# EAGLE library part AP2112M-3.3TRG1_AP2112M-3.3TRG1 (library ROSPIN School Payload)
LDO Voltage Regulators LDO CMOS HiCurr Source: Datasheet <https://www.diodes.com/assets/Datasheets/AP2112.pdf>
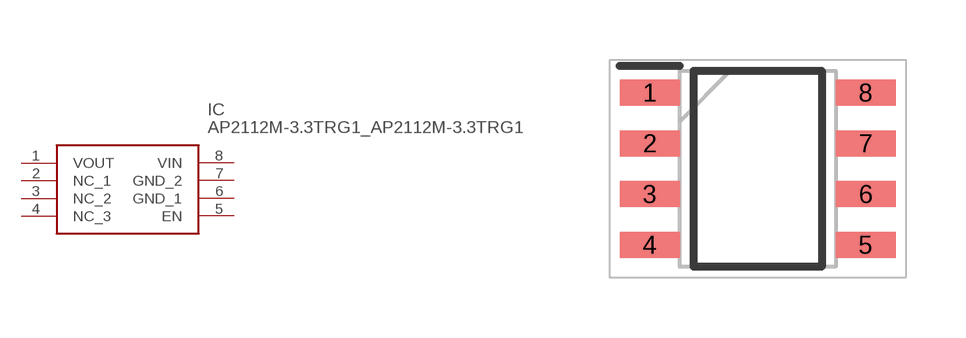
[diagram p1: symbol with the pads of AP2112M-3.3TRG1_SOIC127P600X170-8N; footprint AP2112M-3.3TRG1_SOIC127P600X170-8N]

Designator prefix IC

## AP2112M-3.3TRG1_AP2112M-3.3TRG1 (DESCRIPTION: LDO Voltage Regulators LDO CMOS HiCurr; HEIGHT: 1.7mm; MANUFACTURER_NAME: Diodes Inc.; MANUFACTURER_PART_NUMBER: AP2112M-3.3TRG1; MOUSER_PART_NUMBER: 621-AP2112M-3.3TRG1; MOUSER_PRICE-STOCK: https://www.mouser.co.uk/ProductDetail/Diodes-Incorporated/AP2112M-3.3TRG1?qs=5V6w%252Be2aIqa1YM8VADFBsQ%3D%3D)  [AP2112M-3.3TRG1_SOIC127P600X170-8N]
1  VOUT
2  NC_1
3  NC_2
4  NC_3
5  EN
6  GND_1
7  GND_2
8  VIN

## Footprint AP2112M-3.3TRG1_SOIC127P600X170-8N (pad centres in mm)
SO-8(Thickness=1.7mm)
smd 1.5 x 0.65: 1 -2.7,1.905; 2 -2.7,0.635; 3 -2.7,-0.635; 4 -2.7,-1.905; 5 2.7,-1.905; 6 2.7,-0.635; 7 2.7,0.635; 8 2.7,1.905